# EAGLE library part USB_MICRO_B (library JOSHUA)
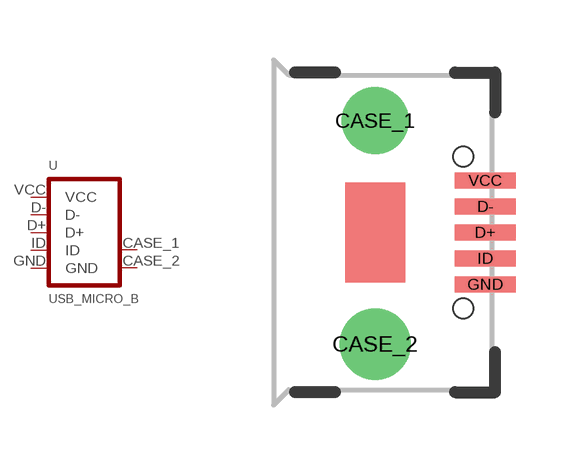
[diagram p8: symbol with the pads of USB-AB-MICRO-SMD_V03; footprint USB-AB-MICRO-SMD_V03]

Designator prefix -

## USB_MICRO_B  [USB-AB-MICRO-SMD_V03]
CASE_1  CASE_1
CASE_2  CASE_2
D+  D+
D-  D-
GND  GND
ID  ID
VCC  VCC

## Footprint USB-AB-MICRO-SMD_V03 (pad centres in mm)
drill 0.9 pad 1.676: CASE_1 0,2.794
drill 0.9 pad 1.778: CASE_2 0,-2.794
smd 1.524 x 0.4: D+ 2.751,0; D- 2.751,0.65; GND 2.751,-1.3; ID 2.751,-0.65; VCC 2.751,1.3
hole 0.5 at 2.2,1.9
hole 0.5 at 2.2,-1.9